# Altium footprint library MiniWS.PcbLib: 27 footprints (part 1 of 2)
Each footprint in its own frame and in the unit in brackets; x right, y up, seen from the top. Pads: shape width x height; smd on the part's side, far side on the other; paste and mask are expansions set on the pad; w line width, h text height; cw(c..) or ccw(c..) is an arc to the next point about the centre after c.
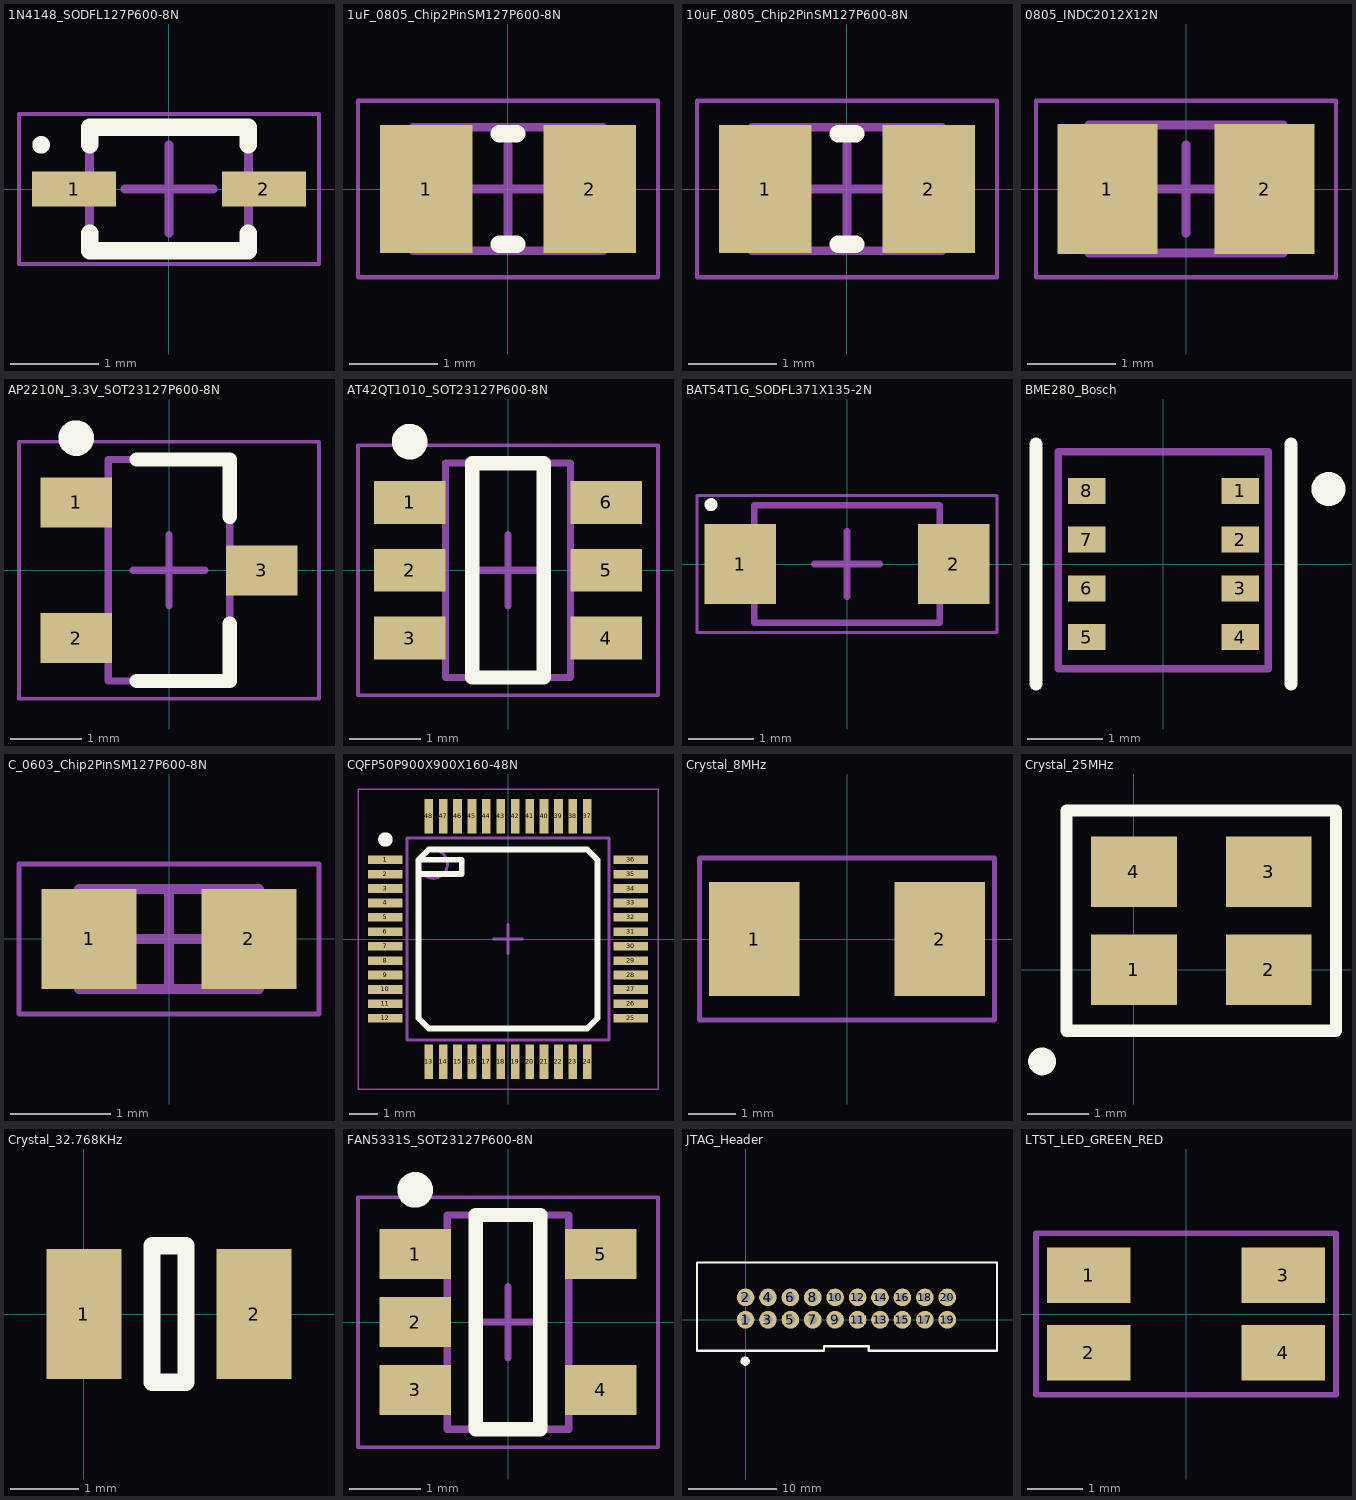
[diagram p0: the footprints below, top view; thin cyan lines are the x and y axes]

## 1N4148_SODFL127P600-8N [mm]
height 0.9
pads (2):
  rect 0.95x0.4 smd: 1(-1.075,0) 2(1.075,0)
Top Overlay:
  circle w0.1: c-1.45,0.5 r0.05
  lines w0.2: -0.9,-0.5 -0.9,-0.7 0.9,-0.7 0.9,-0.5 ; -0.9,0.5 -0.9,0.7 0.9,0.7 0.9,0.5
Mechanical 13:
  lines w0.1: -0.9,-0.675 0.9,-0.675 0.9,0.675 -0.9,0.675 -0.9,-0.675
Mechanical 15:
  lines w0.05: -1.7,-0.85 1.7,-0.85 1.7,0.85 -1.7,0.85 -1.7,-0.85
  lines w0.1: -0.5,0 0.5,0 ; 0,-0.5 0,0.5
3D body "1N4148_SODFL127P600-8N.step": height 0.9, standoff 0, extent -1.25,-0.675 1.25,0.675

## 1uF_0805_Chip2PinSM127P600-8N [mm]
height 1.35
pads (2):
  rect 1.05x1.45 smd: 1(-0.925,0) 2(0.925,0)
Top Overlay:
  lines w0.2: -0.1,-0.625 0.1,-0.625 ; -0.1,0.625 0.1,0.625
Mechanical 13:
  lines w0.1: -1.075,-0.7 1.075,-0.7 1.075,0.7 -1.075,0.7 -1.075,-0.7
Mechanical 15:
  lines w0.05: -1.7,-1 1.7,-1 1.7,1 -1.7,1 -1.7,-1
  lines w0.1: -0.5,0 0.5,0 ; 0,-0.5 0,0.5
3D body: height 1.35, standoff 0, extent 0.625,-0.7 1.075,0.7
3D body: height 1.35, standoff 0, extent -1.075,-0.7 -0.625,0.7
3D body: height 1.35, standoff 0, extent -0.625,-0.7 0.625,0.7

## 10uF_0805_Chip2PinSM127P600-8N [mm]
height 1.4
pads (2):
  rect 1.05x1.45 smd: 1(-0.925,0) 2(0.925,0)
Top Overlay:
  lines w0.2: -0.1,-0.625 0.1,-0.625 ; -0.1,0.625 0.1,0.625
Mechanical 13:
  lines w0.1: -1.075,-0.7 -1.075,0.7 1.075,0.7 1.075,-0.7 -1.075,-0.7
Mechanical 15:
  lines w0.05: -1.7,-1 -1.7,1 1.7,1 1.7,-1 -1.7,-1
  lines w0.1: -0.5,0 0.5,0 ; 0,-0.5 0,0.5
3D body "10uF_0805_Chip2PinSM127P600-8N.step": height 1.4, standoff 0, extent -1.075,-0.7 1.075,0.7

## 0805_INDC2012X12N [mm] "Chip Inductor, 2-Leads, Body 2.00x1.25mm, IPC Medium Density"
height 1.25
pads (2):
  rect 1.13x1.47 smd: 1(-0.89,0) 2(0.89,0)
Mechanical 13:
  lines w0.1: -1.1,-0.725 -1.1,0.725 1.1,0.725 1.1,-0.725 -1.1,-0.725
Mechanical 15:
  lines w0.05: -1.7,-1 -1.7,1 1.7,1 1.7,-1 -1.7,-1
  lines w0.1: -0.5,0 0.5,0 ; 0,-0.5 0,0.5
3D body "0805_INDC2012X12N.step": height 1.25, standoff 0, extent -1.1,-0.725 1.1,0.725

## AP2210N_3.3V_SOT23127P600-8N [mm]
height 1.45
pads (3):
  rect 1x0.7 smd: 1(-1.3,0.95) 2(-1.3,-0.95) 3(1.3,0)
Top Overlay:
  circle w0.25: c-1.3,1.85 r0.125
  lines w0.2: -0.45,-1.55 0.85,-1.55 0.85,-0.75 ; -0.45,1.55 0.85,1.55 0.85,0.75
Mechanical 13:
  lines w0.1: -0.85,-1.55 0.85,-1.55 0.85,1.55 -0.85,1.55 -0.85,-1.55
Mechanical 15:
  lines w0.05: -2.1,-1.8 2.1,-1.8 2.1,1.8 -2.1,1.8 -2.1,-1.8
  lines w0.1: -0.5,0 0.5,0 ; 0,-0.5 0,0.5
3D body "AP2210N_3.3V_SOT23127P600-8N.step": height 1.45, standoff 0, extent -1.5,-1.55 1.5,1.55

## AT42QT1010_SOT23127P600-8N [mm]
height 1.45
pads (6):
  rect 1x0.6 smd: 1(-1.375,0.95) 2(-1.375,0) 3(-1.375,-0.95) 4(1.375,-0.95) 5(1.375,0) 6(1.375,0.95)
Top Overlay:
  circle w0.25: c-1.375,1.8 r0.125
  lines w0.2: -0.5,-1.5 -0.5,1.5 0.5,1.5 0.5,-1.5 -0.5,-1.5
Mechanical 13:
  lines w0.1: -0.875,-1.5 0.875,-1.5 0.875,1.5 -0.875,1.5 -0.875,-1.5
Mechanical 15:
  lines w0.05: -2.1,-1.75 2.1,-1.75 2.1,1.75 -2.1,1.75 -2.1,-1.75
  lines w0.1: -0.5,0 0.5,0 ; 0,-0.5 0,0.5
3D body "AT42QT1010_SOT23127P600-8N.step": height 1.45, standoff 0, extent -1.5,-1.5 1.5,1.5

## BAT54T1G_SODFL371X135-2N [mm] "SODFL, 2-Leads, Body 1.60x3.71mm, IPC Medium Density"
height 1.35
pads (2):
  rect 1.1x1.22 smd: 1(-1.635,0) 2(1.635,0)
Top Overlay:
  circle w0.1: c-2.085,0.91 r0.05
Mechanical 13:
  lines w0.1: -1.42,-0.9 -1.42,0.9 1.42,0.9 1.42,-0.9 -1.42,-0.9
Mechanical 15:
  lines w0.05: -2.3,-1.05 -2.3,1.05 2.3,1.05 2.3,-1.05 -2.3,-1.05
  lines w0.1: -0.5,0 0.5,0 ; 0,-0.5 0,0.5
3D body "BAT54T1G_SODFL371X135-2N.step": height 1.35, standoff 0, extent -1.855,-0.9 1.855,0.9

## BME280_Bosch [mm]
pads (8):
  rect 0.5x0.35 smd mask+0.05: 1(1.025,0.975) 2(1.025,0.325) 3(1.025,-0.325) 4(1.025,-0.975) 5(-1.025,-0.975) 6(-1.025,-0.325) 7(-1.025,0.325) 8(-1.025,0.975)
Top Overlay:
  circle w0.254: c2.2,1 r0.1
  lines w0.17: -1.7,-1.6 -1.7,1.6 ; 1.7,-1.6 1.7,1.6
Mechanical 15:
  lines w0.1: -1.4,-1.4 -1.4,1.5 1.4,1.5 1.4,-1.4 -1.4,-1.4
3D body "BME280.step": height 0.93, standoff 0, extent -1.25,-1.25 1.25,1.25

## C_0603_Chip2PinSM127P600-8N [mm]
height 1
pads (2):
  rect 0.95x1 smd: 1(-0.8,0) 2(0.8,0)
Mechanical 13:
  lines w0.1: -0.9,-0.5 0.9,-0.5 0.9,0.5 -0.9,0.5 -0.9,-0.5
Mechanical 15:
  lines w0.05: -1.5,-0.75 1.5,-0.75 1.5,0.75 -1.5,0.75 -1.5,-0.75
  lines w0.1: -0.5,0 0.5,0 ; 0,-0.5 0,0.5
3D body "0603_Chip2PinSM127P600-8N.step": height 1, standoff 0, extent -0.9,-0.5 0.9,0.5

## CQFP50P900X900X160-48N [mm] "CQFP, 48-Leads, Body 9.00x9.00mm, Pitch 0.50mm, IPC Medium Density"
height 1.6
pads (48):
  rect 1.2x0.3 smd: 1(-4.25,2.75) 2(-4.25,2.25) 3(-4.25,1.75) 4(-4.25,1.25) 5(-4.25,0.75) 6(-4.25,0.25) 7(-4.25,-0.25) 8(-4.25,-0.75) 9(-4.25,-1.25) 10(-4.25,-1.75) 11(-4.25,-2.25) 12(-4.25,-2.75) 25(4.25,-2.75) 26(4.25,-2.25) 27(4.25,-1.75) 28(4.25,-1.25) 29(4.25,-0.75) 30(4.25,-0.25) 31(4.25,0.25) 32(4.25,0.75) 33(4.25,1.25) 34(4.25,1.75) 35(4.25,2.25) 36(4.25,2.75)
  rect 0.3x1.2 smd: 13(-2.75,-4.25) 14(-2.25,-4.25) 15(-1.75,-4.25) 16(-1.25,-4.25) 17(-0.75,-4.25) 18(-0.25,-4.25) 19(0.25,-4.25) 20(0.75,-4.25) 21(1.25,-4.25) 22(1.75,-4.25) 23(2.25,-4.25) 24(2.75,-4.25) 37(2.75,4.25) 38(2.25,4.25) 39(1.75,4.25) 40(1.25,4.25) 41(0.75,4.25) 42(0.25,4.25) 43(-0.25,4.25) 44(-0.75,4.25) 45(-1.25,4.25) 46(-1.75,4.25) 47(-2.25,4.25) 48(-2.75,4.25)
Top Overlay:
  circle w0.25: c-4.25,3.45 r0.125
  lines w0.2: -3.1,2.25 -1.6,2.25 -1.6,2.75 -3.1,2.75 ; -3.1,2.75 -3.1,-2.75 -2.75,-3.1 2.75,-3.1 3.1,-2.75 3.1,2.75 2.75,3.1 -2.75,3.1 -3.1,2.75
Mechanical 13:
  circle w0.1: c-2.6,2.6 r0.5
  lines w0.1: -3.5,-3.5 -3.5,3.5 3.5,3.5 3.5,-3.5 -3.5,-3.5
Mechanical 15:
  lines w0.05: -5.2,-5.2 -5.2,5.2 5.2,5.2 5.2,-5.2 -5.2,-5.2
  lines w0.1: -0.5,0 0.5,0 ; 0,-0.5 0,0.5
3D body "CQFP50P900X900X160-48N.step": height 1.45, standoff 0, extent -4.6,-4.6 4.6,4.6

## Crystal_8MHz [mm]
pads (2):
  rect 1.9x2.4 smd: 1(-1.95,0) 2(1.95,0)
Mechanical 15:
  lines w0.1: -3.1,-1.7 3.1,-1.7 3.1,1.7 -3.1,1.7 -3.1,-1.7
3D body "ECS-250-18-30-JEM-TR--3DModel-STEP-40055.STEP": height 1.4, standoff 0, extent -2.5,-1.6 2.5,1.6

## Crystal_25MHz [mm]
pads (4):
  rect 1.4x1.15 smd: 1(0,0) 2(2.2,0) 3(2.2,1.6) 4(0,1.6)
Top Overlay:
  circle w0.254: c-1.5,-1.5 r0.1
  lines w0.2: -1.1,-1 -1.1,2.6 3.3,2.6 3.3,-1 -1.1,-1
3D body: height 0.6, standoff 0, extent -0.9,-0.8 3.1,2.4

## Crystal_32.768KHz [mm]
pads (2):
  rect 1.1x1.9 smd mask+0.05: 1(0,0) 2(2.5,0)
Top Overlay:
  lines w0.254: 1,-1 1.5,-1 1.5,1 1,1 1,-1
3D body "Crystal_32.768KHz.step": height 0.9, standoff 0, extent -0.35,-0.75 2.85,0.75

## FAN5331S_SOT23127P600-8N [mm]
height 1.45
pads (5):
  rect 1x0.7 smd: 1(-1.3,0.95) 2(-1.3,0) 3(-1.3,-0.95) 4(1.3,-0.95) 5(1.3,0.95)
Top Overlay:
  circle w0.25: c-1.3,1.85 r0.125
  lines w0.2: -0.45,-1.5 -0.45,1.5 0.45,1.5 0.45,-1.5 -0.45,-1.5
Mechanical 13:
  lines w0.1: -0.85,-1.5 0.85,-1.5 0.85,1.5 -0.85,1.5 -0.85,-1.5
Mechanical 15:
  lines w0.05: -2.1,-1.75 2.1,-1.75 2.1,1.75 -2.1,1.75 -2.1,-1.75
  lines w0.1: -0.5,0 0.5,0 ; 0,-0.5 0,0.5
3D body "FAN5331S_SOT23127P600-8N.step": height 1.45, standoff 0, extent -1.5,-1.5 1.5,1.5

## JTAG_Header [mm]
pads (20):
  round 2 hole 1 mask+0.05: 1(0,0) 2(0,2.54) 3(2.54,0) 4(2.54,2.54) 5(5.08,0) 6(5.08,2.54) 7(7.62,0) 8(7.62,2.54) 9(10.16,0) 10(10.16,2.54) 11(12.7,0) 12(12.7,2.54) 13(15.24,0) 14(15.24,2.54) 15(17.78,0) 16(17.78,2.54) 17(20.32,0) 18(20.32,2.54) 19(22.86,0) 20(22.86,2.54)
Top Overlay:
  region: -0.538,-4.691 -0.538,-4.592 -0.462,-4.408 -0.321,-4.267 -0.138,-4.191 -0.038,-4.191 0.061,-4.191 0.245,-4.267 0.386,-4.408 0.462,-4.592 0.462,-4.691 0.462,-4.791 0.386,-4.975 0.245,-5.115 0.061,-5.191 -0.038,-5.191 -0.138,-5.191 -0.321,-5.115 -0.462,-4.975 -0.538,-4.791
  lines w0.254: -5.5,-3.5 -5.5,6.5 28.5,6.5 28.5,-3.5 13.97,-3.5 13.97,-3 8.89,-3 8.89,-3.5 -5.5,-3.5
3D body "JTAG.stp": height 8.89, standoff -3.17, extent -5.07,-2.971 27.925,5.843

## LTST_LED_GREEN_RED [mm]
pads (4):
  rect 1.5x1 smd: 1(-1.75,0.7) 2(-1.75,-0.7) 3(1.75,0.7) 4(1.75,-0.7)
Mechanical 15:
  lines w0.1: -2.7,-1.45 2.7,-1.45 2.7,1.45 -2.7,1.45 -2.7,-1.45
3D body "LTST-C155GYKT--3DModel-STEP-56544.STEP": height 1.1, standoff 0, extent -1.55,-1.35 1.65,1.35